# Altium schematic symbol library LNK30x.SchLib: 1 symbol
Pins are listed as number, name and electrical type; pins without a type are passive.

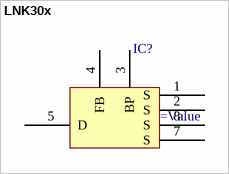
[diagram p0: symbol LNK30x]

## LNK30x
designator IC?
=Description
pins: 1 S, 2 S, 3 BP, 4 FB, 5 D, 7 S, 8 S